# EAGLE library part 74HC595 (library ds_ic_logic)
SN74HCS595-Q1 Automotive 8-Bit Shift Register With Schmitt-Trigger Inputs and 3-State Output Registers
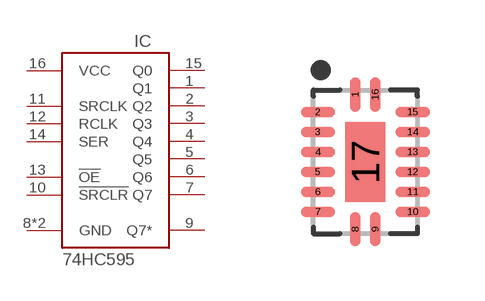
[diagram p7: symbol with the pads of QFN50P350X250X75-17T200X100N; footprint QFN50P350X250X75-17T200X100N]

Designator prefix IC

## 74HC595BQBR  [QFN50P350X250X75-17T200X100N]
1  Q1  out
2  Q2  out
3  Q3  out
4  Q4  out
5  Q5  out
6  Q6  out
7  Q7  out
8  GND  pwr
9  Q7*  out
10  !SRCLR  in
11  SRCLK  in
12  RCLK  in
13  !OE  in
14  SER  in
15  Q0  out
16  VCC  pwr
17  GND  pwr

## Footprint QFN50P350X250X75-17T200X100N (pad centres in mm)
16-QFN, 0.50 mm pitch, 3.50 X 2.50 X 0.75 mm body, 2.00 X 1.00 mm thermal pad 16-pin QFN package with 0.50 mm pitch with body size 3.50 X 2.50 X 0.75 mm and thermal pad size 2.00 X 1.00 mm
smd 0.264 x 0.86: 1 -0.25,1.685; 8 -0.25,-1.685; 9 0.25,-1.685; 16 0.25,1.685
smd 0.86 x 0.264: 2 -1.185,1.25; 3 -1.185,0.75; 4 -1.185,0.25; 5 -1.185,-0.25; 6 -1.185,-0.75; 7 -1.185,-1.25; 10 1.185,-1.25; 11 1.185,-0.75; 12 1.185,-0.25; 13 1.185,0.25; 14 1.185,0.75; 15 1.185,1.25
smd 1 x 2: 17 0,0